# Altium schematic symbol library TPS736xx.SchLib: 1 symbol
Pins are listed as number, name and electrical type; pins without a type are passive.

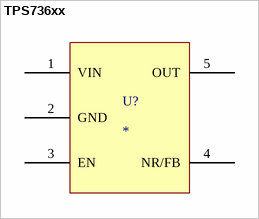
[diagram p0: symbol TPS736xx]

## TPS736xx
designator U?
Ti 400mA LDO; Manufacturer: Texas Instruments; Part No.: TPS736XX; Vendor: Mouser; Price Est.: $2.25
footprint SOT23-5 (SOT23, 5-Leads, Body 3.0x3.0mm (max), Pitch 0.95mm)
pins: 1 VIN, 2 GND, 3 EN, 4 NR/FB, 5 OUT